# Altium footprint library S-1318D28-A4T2U4.PcbLib: 1 footprints
Each footprint in its own frame and in the unit in brackets; x right, y up, seen from the top. Pads: shape width x height; smd on the part's side, far side on the other; paste and mask are expansions set on the pad; w line width, h text height; cw(c..) or ccw(c..) is an arc to the next point about the centre after c.
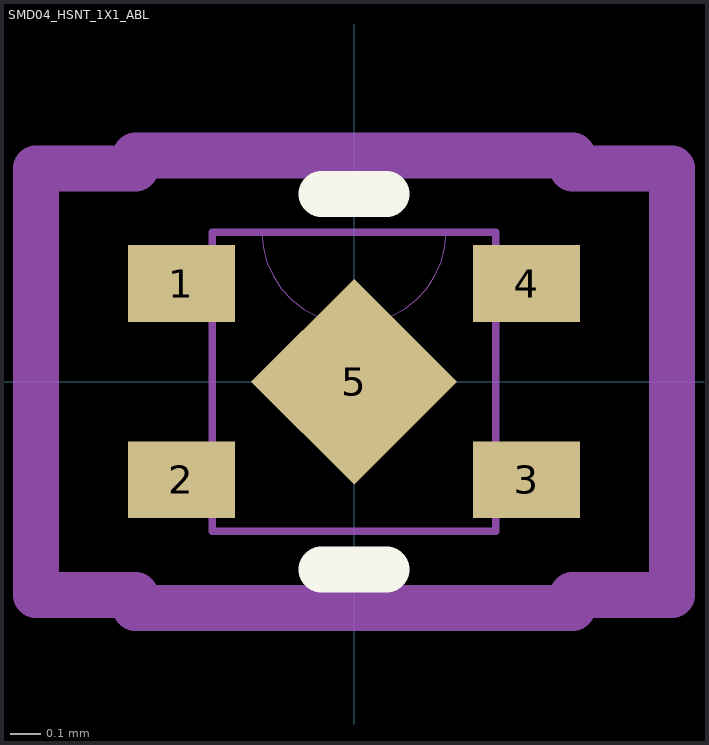
[diagram p0: the footprint, top view; thin cyan lines are the x and y axes]

## SMD04_HSNT_1X1_ABL [mil]
pads (5):
  rect 14x10 smd paste+0 mask+0: 1(-22.5,12.8) 2(-22.5,-12.8) 3(22.5,-12.8) 4(22.5,12.8)
  rect 19x19 smd rot 45 paste+0 mask+0: 5(0,0)
Top Overlay:
  lines w6: -4.25,-24.5 4.25,-24.5 ; -4.25,24.5 4.25,24.5
Mechanical 13:
  lines w0: -12,19.5 ccw(c0,19.5) 12,19.5
  lines w1: -18.5,-19.5 -18.5,19.5 18.5,19.5 18.5,-19.5 -18.5,-19.5
Mechanical 15:
  lines w6: -41.5,-27.8 -41.5,27.8 -28.5,27.8 -28.5,29.5 28.5,29.5 28.5,27.8 41.5,27.8 41.5,-27.8 28.5,-27.8 28.5,-29.5 -28.5,-29.5 -28.5,-27.8 -41.5,-27.8
3D body: height 10, standoff 0, extent 0,0 10,10